# EAGLE library part MCP73871 (library psas_c3)
MCP73871 Lithium Polymer Battery Charger Digikey: MCP73871-2CCI/ML-ND
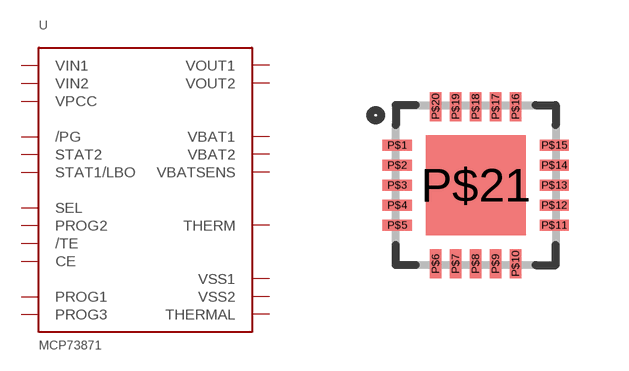
[diagram p2: symbol with the pads of QFN20_4MM; footprint QFN20_4MM]

Designator prefix U

## MCP73871  [QFN20_4MM]
P$1  VOUT1  pwr
P$2  VPCC  pas
P$3  SEL  in
P$4  PROG2  in
P$5  THERM  pas
P$6  /PG  out
P$7  STAT2  out
P$8  STAT1/LBO  out
P$9  /TE  in
P$10  VSS1  pwr
P$11  VSS2  pwr
P$12  PROG3  pas
P$13  PROG1  pas
P$14  VBAT1  pwr
P$15  VBAT2  pwr
P$16  VBATSENS  pas
P$17  CE  in
P$18  VIN1  pwr
P$19  VIN2  pwr
P$20  VOUT2  pwr
P$21  THERMAL  pwr

## Footprint QFN20_4MM (pad centres in mm)
20-Lead QFN 4x4mm Body, 0.5mm pitch Source: http://ww1.microchip.com/downloads/en/DeviceDoc/22090b.pdf
smd 0.73 x 0.28: P$1 -1.965,1; P$2 -1.965,0.5; P$3 -1.965,0; P$4 -1.965,-0.5; P$5 -1.965,-1; P$11 1.965,-1; P$12 1.965,-0.5; P$13 1.965,0; P$14 1.965,0.5; P$15 1.965,1
smd 0.28 x 0.73: P$6 -1,-1.965; P$7 -0.5,-1.965; P$8 0,-1.965; P$9 0.5,-1.965; P$10 1,-1.965; P$16 1,1.965; P$17 0.5,1.965; P$18 0,1.965; P$19 -0.5,1.965; P$20 -1,1.965
smd 2.5 x 2.5: P$21 0,0